# Altium schematic symbol library Seeed-Resistor.SCHLIB: 113 symbols
Pins are listed as number, name and electrical type; pins without a type are passive.

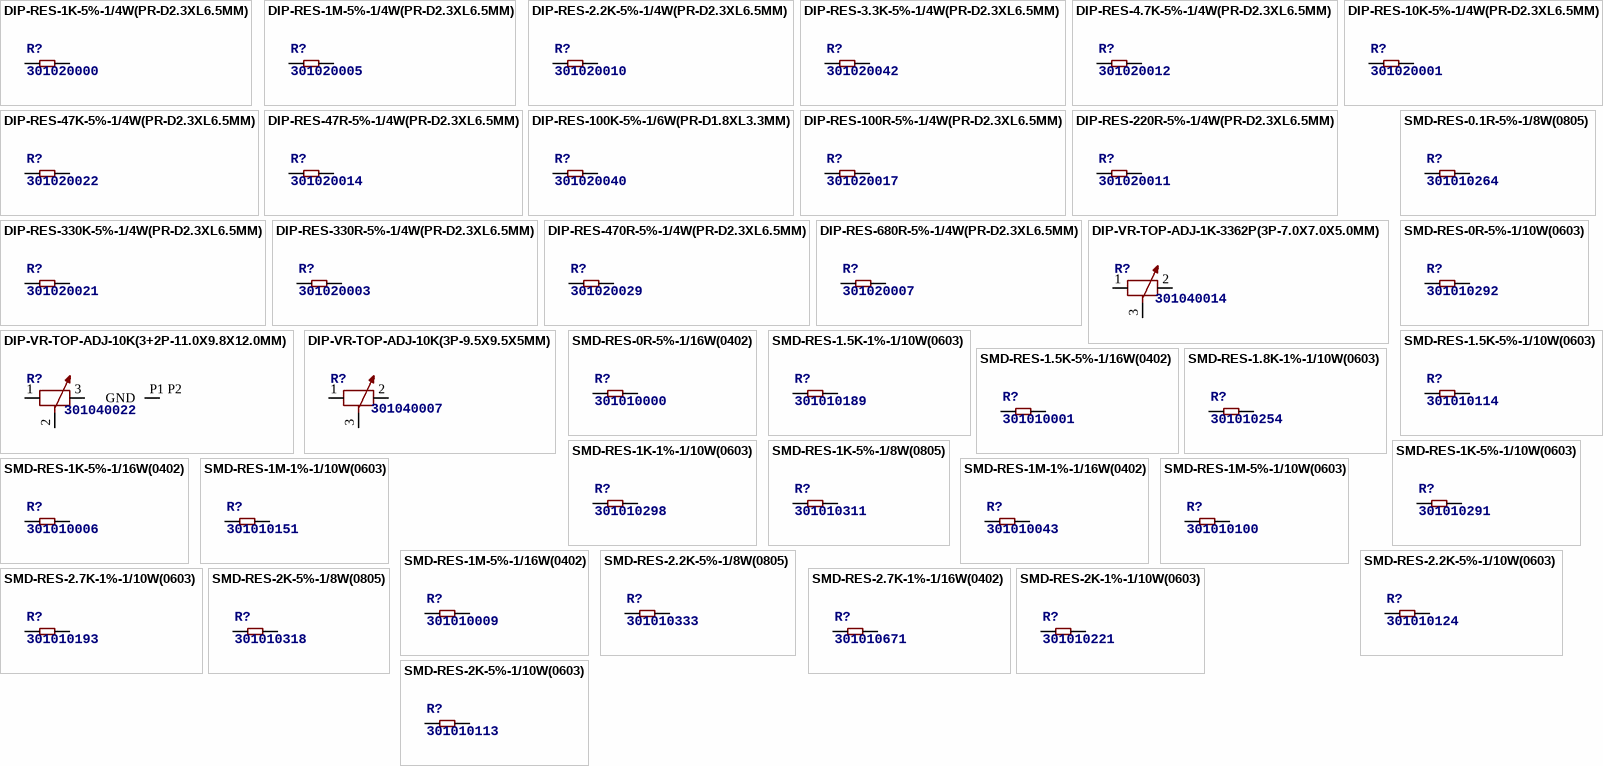
[diagram p0: symbols DIP-RES-1K-5%-1/4W(PR-D2.3XL6.5MM) to SMD-RES-2K-5%-1/10W(0603)]

## DIP-RES-1K-5%-1/4W(PR-D2.3XL6.5MM)
designator R?, comment 301020000
MPN: FHCFR-1/4W-102J
footprint PR-D2.3XL6.5MM
pins: 1, 2

## DIP-RES-1M-5%-1/4W(PR-D2.3XL6.5MM)
designator R?, comment 301020005
MPN: FHCFR-1/4W-105J
footprint PR-D2.3XL6.5MM
pins: 1, 2

## DIP-RES-2.2K-5%-1/4W(PR-D2.3XL6.5MM)
designator R?, comment 301020010
MPN: FHCFR-1/4W-222J
footprint PR-D2.3XL6.5MM
pins: 1, 2

## DIP-RES-3.3K-5%-1/4W(PR-D2.3XL6.5MM)
designator R?, comment 301020042
MPN: FHCFR-1/4W-332J
footprint PR-D2.3XL6.5MM
pins: 1, 2

## DIP-RES-4.7K-5%-1/4W(PR-D2.3XL6.5MM)
designator R?, comment 301020012
MPN: FHCFR-1/4W-472J
footprint PR-D2.3XL6.5MM
pins: 1, 2

## DIP-RES-10K-5%-1/4W(PR-D2.3XL6.5MM)
designator R?, comment 301020001
MPN: FHCFR-1/4W-103J
footprint PR-D2.3XL6.5MM
pins: 1, 2

## DIP-RES-47K-5%-1/4W(PR-D2.3XL6.5MM)
designator R?, comment 301020022
MPN: FHCFR-1/4W-473J
footprint PR-D2.3XL6.5MM
pins: 1, 2

## DIP-RES-47R-5%-1/4W(PR-D2.3XL6.5MM)
designator R?, comment 301020014
MPN: FHCFR-1/4W-470J
footprint PR-D2.3XL6.5MM
pins: 1, 2

## DIP-RES-100K-5%-1/6W(PR-D1.8XL3.3MM)
designator R?, comment 301020040
MPN: FHCFR-1/6W-104J--
footprint PR-D1.8*L3.3MM
pins: 5 2, 6 1

## DIP-RES-100R-5%-1/4W(PR-D2.3XL6.5MM)
designator R?, comment 301020017
MPN: FHCFR-1/4W-101J
footprint PR-D2.3XL6.5MM
pins: 1, 2

## DIP-RES-220R-5%-1/4W(PR-D2.3XL6.5MM)
designator R?, comment 301020011
MPN: FHCFR-1/4W-221J
footprint PR-D2.3XL6.5MM
pins: 1, 2

## DIP-RES-330K-5%-1/4W(PR-D2.3XL6.5MM)
designator R?, comment 301020021
MPN: FHCFR-1/4W-334J
footprint PR-D2.3XL6.5MM
pins: 1, 2

## DIP-RES-330R-5%-1/4W(PR-D2.3XL6.5MM)
designator R?, comment 301020003
MPN: FHCFR-1/4W-331J
footprint PR-D2.3XL6.5MM
pins: 1, 2

## DIP-RES-470R-5%-1/4W(PR-D2.3XL6.5MM)
designator R?, comment 301020029
MPN: FHCFR-1/4W-471J
footprint PR-D2.3XL6.5MM
pins: 1, 2

## DIP-RES-680R-5%-1/4W(PR-D2.3XL6.5MM)
designator R?, comment 301020007
MPN: FHCFR-1/4W-681J
footprint PR-D2.3XL6.5MM
pins: 1, 2

## DIP-VR-TOP-ADJ-1K-3362P(3P-7.0X7.0X5.0MM)
designator R?, comment 301040014
MPN: SX3362P
footprint ADJR3-7.0X7.0X5.0MM
pins: 1, 2, 3

## DIP-VR-TOP-ADJ-10K(3+2P-11.0X9.8X12.0MM)
designator R?, comment 301040022
MPN: WH09-2-103
footprint ADJR2+3P-11.0X9.8X12.0MM
pins: 1, 2, 3, P1 P2 GND (power)

## DIP-VR-TOP-ADJ-10K(3P-9.5X9.5X5MM)
designator R?, comment 301040007
MPN: 3386U-103
footprint ADJR3-9.5X9.5X10.5MM
pins: 1, 2, 3

## SMD-RES-0.1R-5%-1/8W(0805)
designator R?, comment 301010264
MPN: RL0805JR-070R1L
footprint R0805
pins: 1, 2

## SMD-RES-0R-5%-1/10W(0603)
designator R?, comment 301010292
MPN: RC0603JR-070RL
footprint R0603
pins: 1, 2

## SMD-RES-0R-5%-1/16W(0402)
designator R?, comment 301010000
MPN: RC0402JR-070RL
footprint R0402
pins: 1, 2

## SMD-RES-1.5K-1%-1/10W(0603)
designator R?, comment 301010189
MPN: RC0603FR-071K5L
footprint R0603
pins: 1, 2

## SMD-RES-1.5K-5%-1/10W(0603)
designator R?, comment 301010114
MPN: RC0603JR-071K5L
footprint R0603
pins: 1, 2

## SMD-RES-1.5K-5%-1/16W(0402)
designator R?, comment 301010001
MPN: RC0402JR-071K5L
footprint R0402
pins: 1, 2

## SMD-RES-1.8K-1%-1/10W(0603)
designator R?, comment 301010254
MPN: RC0603FR-071K8L
footprint R0603
pins: 1, 2

## SMD-RES-1K-1%-1/10W(0603)
designator R?, comment 301010298
MPN: RC0603FR-071KL
footprint R0603
pins: 1, 2

## SMD-RES-1K-5%-1/8W(0805)
designator R?, comment 301010311
MPN: RC0805JR-071KL
footprint R0805
pins: 1, 2

## SMD-RES-1K-5%-1/10W(0603)
designator R?, comment 301010291
MPN: RC0603JR-071KL
footprint R0603
pins: 1, 2

## SMD-RES-1K-5%-1/16W(0402)
designator R?, comment 301010006
MPN: RC0402JR-071KL
footprint R0402
pins: 1, 2

## SMD-RES-1M-1%-1/10W(0603)
designator R?, comment 301010151
MPN: RC0603FR-071ML
footprint R0603
pins: 1, 2

## SMD-RES-1M-1%-1/16W(0402)
designator R?, comment 301010043
MPN: RC0402FR-071ML
footprint R0402
pins: 1, 2

## SMD-RES-1M-5%-1/10W(0603)
designator R?, comment 301010100
MPN: RC0603JR-071ML
footprint R0603
pins: 1, 2

## SMD-RES-1M-5%-1/16W(0402)
designator R?, comment 301010009
MPN: RC0402JR-071ML
footprint R0402
pins: 1, 2

## SMD-RES-2.2K-5%-1/8W(0805)
designator R?, comment 301010333
MPN: RC0805JR-072K2L
footprint R0805
pins: 1, 2

## SMD-RES-2.2K-5%-1/10W(0603)
designator R?, comment 301010124
MPN: RC0603JR-072K2L
footprint R0603
pins: 1, 2

## SMD-RES-2.7K-1%-1/10W(0603)
designator R?, comment 301010193
footprint R0603
pins: 1, 2

## SMD-RES-2.7K-1%-1/16W(0402)
designator R?, comment 301010671
MPN: RC0402FR-072K7L
footprint R0402
pins: 1, 2

## SMD-RES-2K-1%-1/10W(0603)
designator R?, comment 301010221
MPN: RC0603FR-072KL
footprint R0603
pins: 1, 2

## SMD-RES-2K-5%-1/8W(0805)
designator R?, comment 301010318
MPN: RC0805JR-072KL
footprint R0805
pins: 1, 2

## SMD-RES-2K-5%-1/10W(0603)
designator R?, comment 301010113
MPN: RC0603JR-072KL
footprint R0603
pins: 1, 2

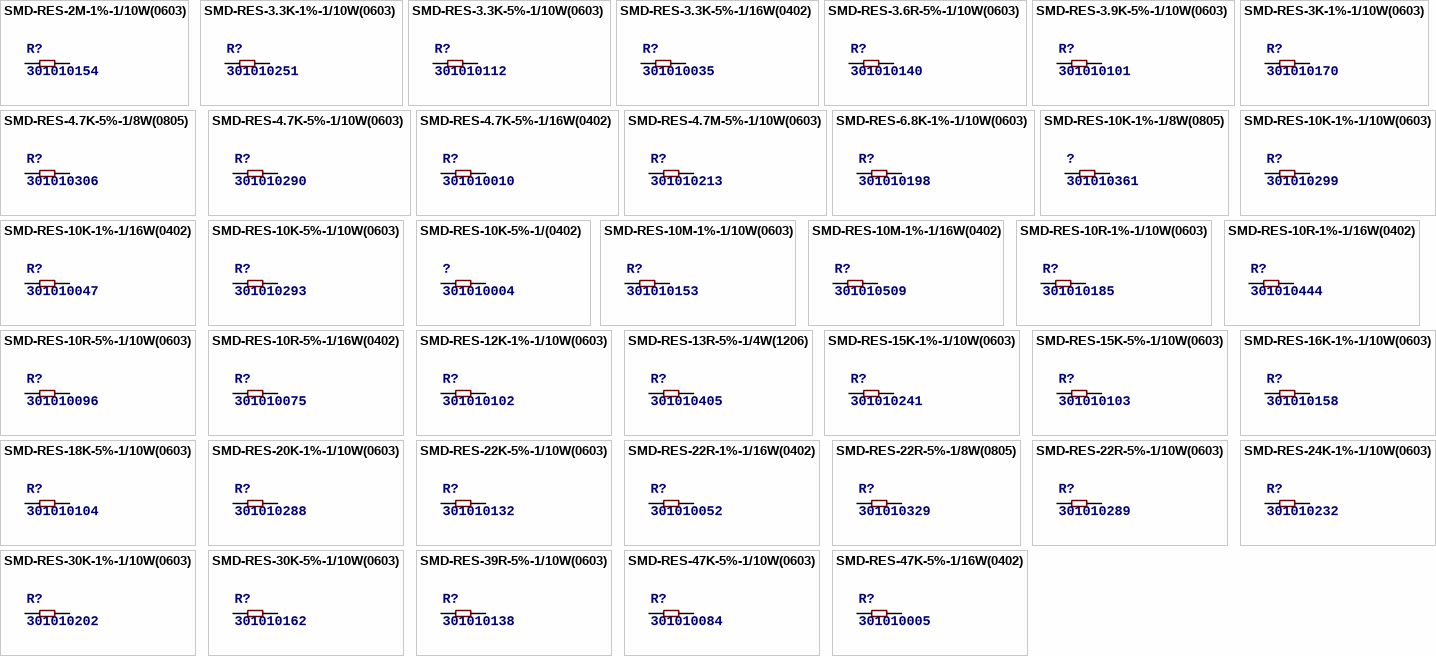
[diagram p1: symbols SMD-RES-2M-1%-1/10W(0603) to SMD-RES-47K-5%-1/16W(0402)]

## SMD-RES-2M-1%-1/10W(0603)
designator R?, comment 301010154
MPN: RC0603FR-072ML
footprint R0603
pins: 1, 2

## SMD-RES-3.3K-1%-1/10W(0603)
designator R?, comment 301010251
MPN: RC0603FR-073K3L
footprint R0603
pins: 1, 2

## SMD-RES-3.3K-5%-1/10W(0603)
designator R?, comment 301010112
footprint R0603
pins: 1, 2

## SMD-RES-3.3K-5%-1/16W(0402)
designator R?, comment 301010035
MPN: RC0402JR-073K3L
footprint R0402
pins: 1, 2

## SMD-RES-3.6R-5%-1/10W(0603)
designator R?, comment 301010140
MPN: RC0603JR-073R6L
footprint R0603
pins: 1, 2

## SMD-RES-3.9K-5%-1/10W(0603)
designator R?, comment 301010101
MPN: RC0603JR-073K9L
footprint R0603
pins: 1, 2

## SMD-RES-3K-1%-1/10W(0603)
designator R?, comment 301010170
MPN: RC0603FR-073KL
footprint R0603
pins: 1, 2

## SMD-RES-4.7K-5%-1/8W(0805)
designator R?, comment 301010306
MPN: RC0805JR-074K7L
footprint R0805
pins: 1, 2

## SMD-RES-4.7K-5%-1/10W(0603)
designator R?, comment 301010290
MPN: RC0603JR-074K7L
footprint R0603
pins: 1, 2

## SMD-RES-4.7K-5%-1/16W(0402)
designator R?, comment 301010010
MPN: RC0402JR-074K7L
footprint R0402
pins: 1, 2

## SMD-RES-4.7M-5%-1/10W(0603)
designator R?, comment 301010213
MPN: RC0603JR-074M7L
footprint R0603
pins: 1, 2

## SMD-RES-6.8K-1%-1/10W(0603)
designator R?, comment 301010198
MPN: RC0805JR-07220KL
footprint R0603
pins: 1, 2

## SMD-RES-10K-1%-1/8W(0805)
designator ?, comment 301010361
MPN: RC0805FR-0710KL
footprint R0805
pins: 1, 2

## SMD-RES-10K-1%-1/10W(0603)
designator R?, comment 301010299
MPN: RC0603FR-0710KL
footprint R0603
pins: 1, 2

## SMD-RES-10K-1%-1/16W(0402)
designator R?, comment 301010047
MPN: RC0402FR-0710KL
footprint R0402
pins: 1, 2

## SMD-RES-10K-5%-1/10W(0603)
designator R?, comment 301010293
MPN: RC0603JR-0710KL
footprint R0603
pins: 1, 2

## SMD-RES-10K-5%-1/(0402)
designator ?, comment 301010004
MPN: RC0402JR-0710KL
footprint R0402
pins: 1, 2

## SMD-RES-10M-1%-1/10W(0603)
designator R?, comment 301010153
MPN: RC0603FR-0710ML
footprint R0603
pins: 1, 2

## SMD-RES-10M-1%-1/16W(0402)
designator R?, comment 301010509
MPN: RC0402FR-0710ML
footprint R0402
pins: 1, 2

## SMD-RES-10R-1%-1/10W(0603)
designator R?, comment 301010185
MPN: RC0603FR-0710RL
footprint R0603
pins: 1, 2

## SMD-RES-10R-1%-1/16W(0402)
designator R?, comment 301010444
MPN: RC0402FR-0710RL
footprint R0402
pins: 1, 2

## SMD-RES-10R-5%-1/10W(0603)
designator R?, comment 301010096
MPN: RC0603JR-0710RL
footprint R0603
pins: 1, 2

## SMD-RES-10R-5%-1/16W(0402)
designator R?, comment 301010075
MPN: RC0402JR-0710RL
footprint R0402
pins: 1, 2

## SMD-RES-12K-1%-1/10W(0603)
designator R?, comment 301010102
MPN: RC0603FR-0712KL
footprint R0603
pins: 1, 2

## SMD-RES-13R-5%-1/4W(1206)
designator R?, comment 301010405
MPN: RC1206JR-0713RL
footprint R1206
pins: 1, 2

## SMD-RES-15K-1%-1/10W(0603)
designator R?, comment 301010241
MPN: RC0603FR-0715KL
footprint R0603
pins: 1, 2

## SMD-RES-15K-5%-1/10W(0603)
designator R?, comment 301010103
MPN: RC0603JR-0715KL
footprint R0603
pins: 1, 2

## SMD-RES-16K-1%-1/10W(0603)
designator R?, comment 301010158
MPN: RC0603FR-0716KL
footprint R0603
pins: 1, 2

## SMD-RES-18K-5%-1/10W(0603)
designator R?, comment 301010104
MPN: RC0603JR-0718KL
footprint R0603
pins: 1, 2

## SMD-RES-20K-1%-1/10W(0603)
designator R?, comment 301010288
MPN: RC0603FR-0720KL
footprint R0603
pins: 1, 2

## SMD-RES-22K-5%-1/10W(0603)
designator R?, comment 301010132
MPN: RC0603JR-0722KL
footprint R0603
pins: 1, 2

## SMD-RES-22R-1%-1/16W(0402)
designator R?, comment 301010052
MPN: RC0402FR-0722RL
footprint R0402
pins: 1, 2

## SMD-RES-22R-5%-1/8W(0805)
designator R?, comment 301010329
MPN: RC0805JR-0722RL
footprint R0805
pins: 1, 2

## SMD-RES-22R-5%-1/10W(0603)
designator R?, comment 301010289
MPN: RC0603JR-0722RL
footprint R0603
pins: 1, 2

## SMD-RES-24K-1%-1/10W(0603)
designator R?, comment 301010232
footprint R0603
pins: 1, 2

## SMD-RES-30K-1%-1/10W(0603)
designator R?, comment 301010202
MPN: RC0603FR-0730KL
footprint R0603
pins: 1, 2

## SMD-RES-30K-5%-1/10W(0603)
designator R?, comment 301010162
footprint R0603
pins: 1, 2

## SMD-RES-39R-5%-1/10W(0603)
designator R?, comment 301010138
MPN: RC0603JR-0739RL
footprint R0603
pins: 1, 2

## SMD-RES-47K-5%-1/10W(0603)
designator R?, comment 301010084
MPN: RC0603JR-0747KL
footprint R0603
pins: 1, 2

## SMD-RES-47K-5%-1/16W(0402)
designator R?, comment 301010005
MPN: RC0402JR-0747KL
footprint R0402
pins: 1, 2

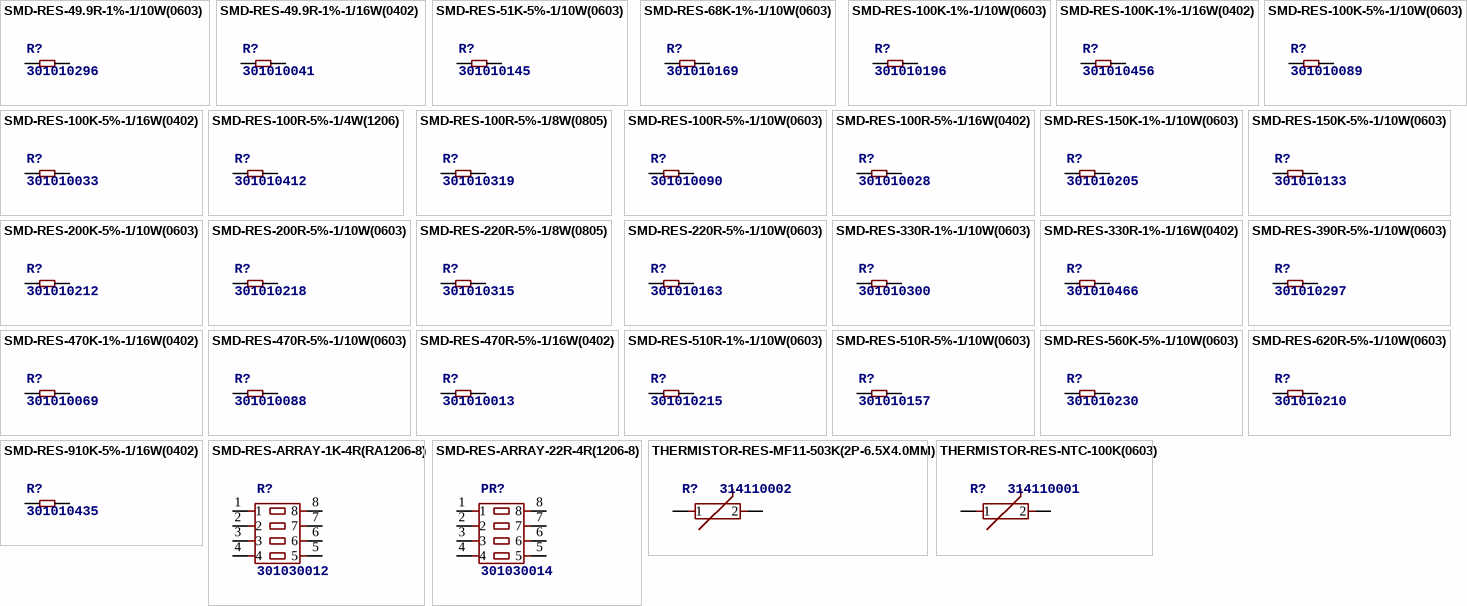
[diagram p2: symbols SMD-RES-49.9R-1%-1/10W(0603) to THERMISTOR-RES-NTC-100K(0603)]

## SMD-RES-49.9R-1%-1/10W(0603)
designator R?, comment 301010296
MPN: RC0603FR-0749R9L
footprint R0603
pins: 1, 2

## SMD-RES-49.9R-1%-1/16W(0402)
designator R?, comment 301010041
MPN: RC0402FR-0749R9L
footprint R0402
pins: 1, 2

## SMD-RES-51K-5%-1/10W(0603)
designator R?, comment 301010145
MPN: RC0603JR-0751KL
footprint R0603
pins: 1, 2

## SMD-RES-68K-1%-1/10W(0603)
designator R?, comment 301010169
MPN: RC0603FR-0768KL
footprint R0603
pins: 1, 2

## SMD-RES-100K-1%-1/10W(0603)
designator R?, comment 301010196
MPN: RC0603FR-07100KL
footprint R0603
pins: 1, 2

## SMD-RES-100K-1%-1/16W(0402)
designator R?, comment 301010456
MPN: RC0402FR-07100KL
footprint R0402
pins: 1, 2

## SMD-RES-100K-5%-1/10W(0603)
designator R?, comment 301010089
MPN: RC0603JR-07100KL
footprint R0603
pins: 1, 2

## SMD-RES-100K-5%-1/16W(0402)
designator R?, comment 301010033
MPN: RC0402JR-07100KL
footprint R0402
pins: 1, 2

## SMD-RES-100R-5%-1/4W(1206)
designator R?, comment 301010412
MPN: RC1206JR-07100RL
footprint R1206
pins: 1, 2

## SMD-RES-100R-5%-1/8W(0805)
designator R?, comment 301010319
MPN: RC0805JR-07100RL
footprint R0805
pins: 1, 2

## SMD-RES-100R-5%-1/10W(0603)
designator R?, comment 301010090
MPN: RC0603JR-07100RL
footprint R0603
pins: 1, 2

## SMD-RES-100R-5%-1/16W(0402)
designator R?, comment 301010028
MPN: RC0402JR-07100RL
footprint R0402
pins: 1, 2

## SMD-RES-150K-1%-1/10W(0603)
designator R?, comment 301010205
MPN: RC0603FR-07150KL
footprint R0603
pins: 1, 2

## SMD-RES-150K-5%-1/10W(0603)
designator R?, comment 301010133
MPN: RC0603JR-07150KL
footprint R0603
pins: 1, 2

## SMD-RES-200K-5%-1/10W(0603)
designator R?, comment 301010212
MPN: RC0603JR-07200KL
footprint R0603
pins: 1, 2

## SMD-RES-200R-5%-1/10W(0603)
designator R?, comment 301010218
MPN: RC0603JR-07200RL
footprint R0603
pins: 1, 2

## SMD-RES-220R-5%-1/8W(0805)
designator R?, comment 301010315
MPN: RC0805JR-07220RL
footprint R0805
pins: 1, 2

## SMD-RES-220R-5%-1/10W(0603)
designator R?, comment 301010163
MPN: RC0603JR-07220RL
footprint R0603
pins: 1, 2

## SMD-RES-330R-1%-1/10W(0603)
designator R?, comment 301010300
MPN: RC0603FR-07330RL
footprint R0603
pins: 1, 2

## SMD-RES-330R-1%-1/16W(0402)
designator R?, comment 301010466
MPN: RC0402FR-07330RL
footprint R0402
pins: 1, 2

## SMD-RES-390R-5%-1/10W(0603)
designator R?, comment 301010297
MPN: RC0603JR-07390RL
footprint R0603
pins: 1, 2

## SMD-RES-470K-1%-1/16W(0402)
designator R?, comment 301010069
MPN: RC0402FR-07470KL
footprint R0402
pins: 1, 2

## SMD-RES-470R-5%-1/10W(0603)
designator R?, comment 301010088
MPN: RC0603JR-07470RL
footprint R0603
pins: 1, 2

## SMD-RES-470R-5%-1/16W(0402)
designator R?, comment 301010013
MPN: RC0402JR-07470RL
footprint R0402
pins: 1, 2

## SMD-RES-510R-1%-1/10W(0603)
designator R?, comment 301010215
footprint R0603
pins: 1, 2

## SMD-RES-510R-5%-1/10W(0603)
designator R?, comment 301010157
MPN: RC0603JR-07510RL
footprint R0603
pins: 1, 2

## SMD-RES-560K-5%-1/10W(0603)
designator R?, comment 301010230
MPN: RC0603JR-07560KL
footprint R0603
pins: 1, 2

## SMD-RES-620R-5%-1/10W(0603)
designator R?, comment 301010210
MPN: RC0603JR-07620RL
footprint R0603
pins: 1, 2

## SMD-RES-910K-5%-1/16W(0402)
designator R?, comment 301010435
MPN: RC0402JR-07910KR
footprint R0402
pins: 1, 2

## SMD-RES-ARRAY-1K-4R(RA1206-8)
designator R?, comment 301030012
MPN: Chip-Array-Series-1%
footprint RA1206-8
pins: 1, 2, 3, 4, 5, 6, 7, 8

## SMD-RES-ARRAY-22R-4R(1206-8)
designator PR?, comment 301030014
MPN: YC324-JK-0722RL
footprint RA1206-8
pins: 1, 2, 3, 4, 5, 6, 7, 8

## THERMISTOR-RES-MF11-503K(2P-6.5X4.0MM)
designator R?, comment 314110002
MPN: MF11-503K
footprint SNR2-2.5-6.5X4.0MM
pins: 1, 2

## THERMISTOR-RES-NTC-100K(0603)
designator R?, comment 314110001
MPN: NCP18WF104F03RC
footprint R0603
pins: 1, 2